# Altium footprint library POGO adapter.PcbLib: 3 footprints
Each footprint in its own frame and in the unit in brackets; x right, y up, seen from the top. Pads: shape width x height; smd on the part's side, far side on the other; paste and mask are expansions set on the pad; w line width, h text height; cw(c..) or ccw(c..) is an arc to the next point about the centre after c.
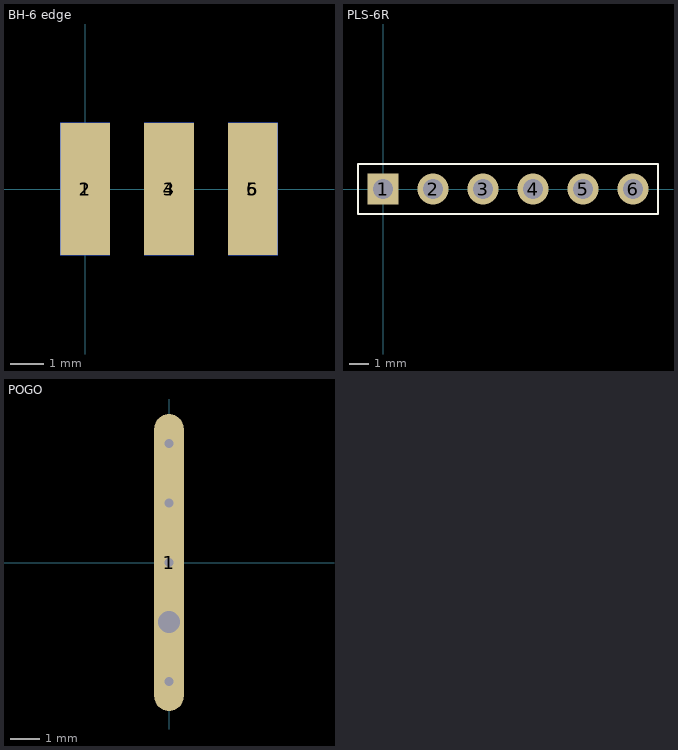
[diagram p0: the footprints below, top view; thin cyan lines are the x and y axes]

## BH-6 edge [mm]
pads (6):
  rect 1.5x4 smd far side: 1(0,0) 3(2.54,0) 5(5.08,0)
  rect 1.5x4 smd: 2(0,0) 4(2.54,0) 6(5.08,0)
3D body "BH-6.step": height 3.84, standoff -5.21, extent -5.08,-10.875 10.16,1.325

## PLS-6R [mm]
pads (6):
  rect 1.6x1.6 hole 1 paste+1 mask+0.1: 1(0,0)
  round 1.6 hole 1 paste+1 mask+0.1: 2(2.54,0) 3(5.08,0) 4(7.62,0) 5(10.16,0) 6(12.7,0)
Top Overlay:
  lines w0.1: -1.27,-1.27 13.97,-1.27 13.97,1.27 -1.27,1.27 -1.27,-1.27
3D body "PLS-6R.step": height 2.57, standoff -3.5, extent -1.27,-0.296 13.97,10.364

## POGO [mm]
pads (1):
  oval 1x10 hole 0.3: 1(0,0)
via 0,-4 diameter 0.7 hole 0.3
via 0,-2 diameter 0.75 hole 0.75
via 0,4 diameter 0.7 hole 0.3
via 0,2 diameter 0.7 hole 0.3
Top Solder:
  region: -0.6,-4.5 0.6,-4.5 0.6,-5.1 -0.6,-5.1
Solder Side:
  region: -0.6,-4.5 0.6,-4.5 0.6,-5.1 -0.6,-5.1